# Altium footprint library Texas_Instruments.PcbLib: 55 footprints (part 1 of 4)
Each footprint in its own frame and in the unit in brackets; x right, y up, seen from the top. Pads: shape width x height; smd on the part's side, far side on the other; paste and mask are expansions set on the pad; w line width, h text height; cw(c..) or ccw(c..) is an arc to the next point about the centre after c.
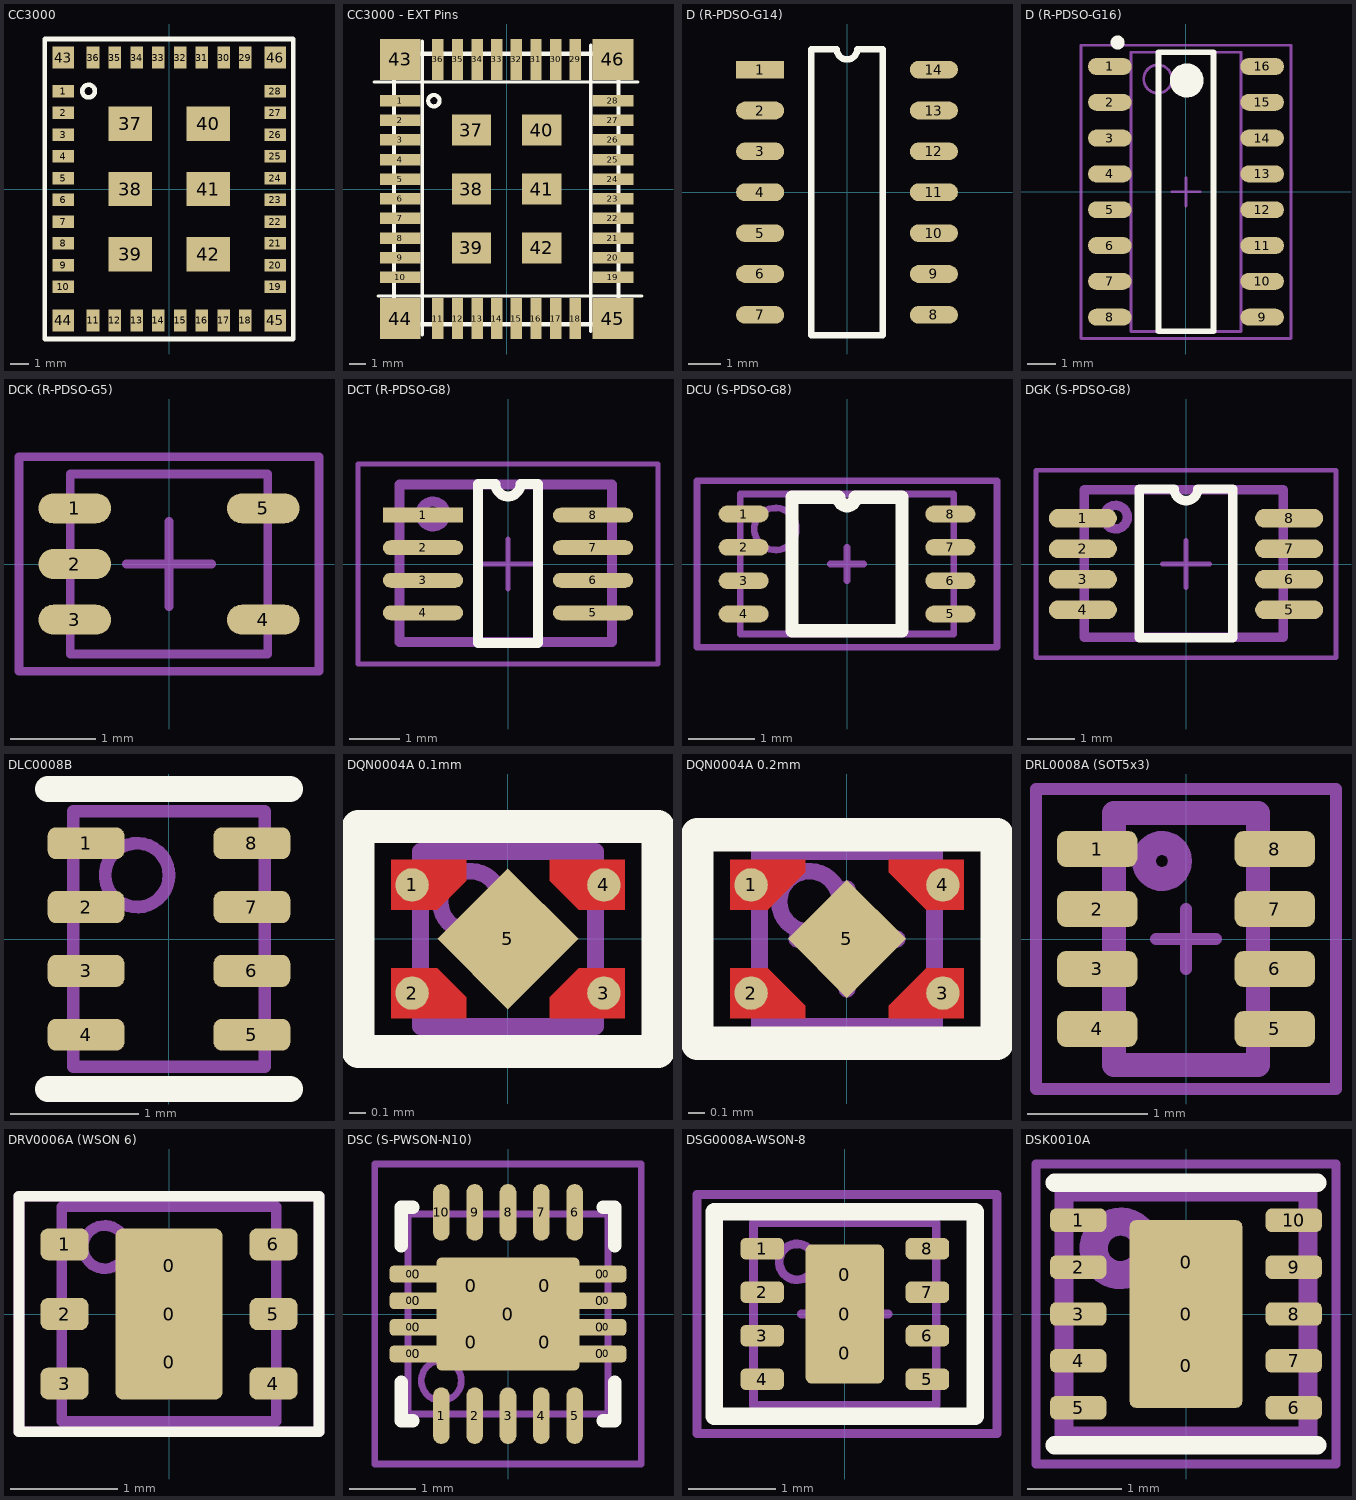
[diagram p0: the footprints below, top view; thin cyan lines are the x and y axes]

## CC3000 [mm] "CC3000"
pads (46):
  rect 1.2x0.7 smd: 1(-5.85,5.4) 2(-5.85,4.2) 3(-5.85,3) 4(-5.85,1.8) 5(-5.85,0.6) 6(-5.85,-0.6) 7(-5.85,-1.8) 8(-5.85,-3) 9(-5.85,-4.2) 10(-5.85,-5.4) 19(5.85,-5.4) 20(5.85,-4.2) 21(5.85,-3) 22(5.85,-1.8) 23(5.85,-0.6) 24(5.85,0.6) 25(5.85,1.8) 26(5.85,3) 27(5.85,4.2) 28(5.85,5.4)
  rect 0.7x1.2 smd: 11(-4.2,-7.25) 12(-3,-7.25) 13(-1.8,-7.25) 14(-0.6,-7.25) 15(0.6,-7.25) 16(1.8,-7.25) 17(3,-7.25) 18(4.2,-7.25) 29(4.2,7.25) 30(3,7.25) 31(1.8,7.25) 32(0.6,7.25) 33(-0.6,7.25) 34(-1.8,7.25) 35(-3,7.25) 36(-4.2,7.25)
  rect 2.4x1.9 smd: 37(-2.15,3.6) 38(-2.15,0) 39(-2.15,-3.6) 40(2.15,3.6) 41(2.15,0) 42(2.15,-3.6)
  rect 1.2x1.2 smd: 43(-5.85,7.25) 44(-5.85,-7.25) 45(5.85,-7.25) 46(5.85,7.25)
Top Overlay:
  circle w0.254: c-4.448,5.4 r0.348
  lines w0.254: -6.875,-8.275 6.85,-8.275 6.85,8.275 -6.875,8.275 -6.875,-8.275
3D body: height 2, standoff -0.1, extent -6.75,-8.15 6.75,8.15

## CC3000 - EXT Pins [mm] "CC3000 - EXT Pins"
pads (46):
  rect 2.5x0.7 smd: 1(-6.5,5.4) 2(-6.5,4.2) 3(-6.5,3) 4(-6.5,1.8) 5(-6.5,0.6) 6(-6.5,-0.6) 7(-6.5,-1.8) 8(-6.5,-3) 9(-6.5,-4.2) 10(-6.5,-5.4) 19(6.5,-5.4) 20(6.5,-4.2) 21(6.5,-3) 22(6.5,-1.8) 23(6.5,-0.6) 24(6.5,0.6) 25(6.5,1.8) 26(6.5,3) 27(6.5,4.2) 28(6.5,5.4)
  rect 0.7x2.5 smd: 11(-4.2,-7.925) 12(-3,-7.925) 13(-1.8,-7.925) 14(-0.6,-7.925) 15(0.6,-7.925) 16(1.8,-7.925) 17(3,-7.925) 18(4.2,-7.925) 29(4.2,7.925) 30(3,7.925) 31(1.8,7.925) 32(0.6,7.925) 33(-0.6,7.925) 34(-1.8,7.925) 35(-3,7.925) 36(-4.2,7.925)
  rect 2.4x1.9 smd: 37(-2.15,3.6) 38(-2.15,0) 39(-2.15,-3.6) 40(2.15,3.6) 41(2.15,0) 42(2.15,-3.6)
  rect 2.5x2.5 smd: 43(-6.5,7.925) 44(-6.5,-7.925) 45(6.5,-7.925) 46(6.5,7.925)
Top Overlay:
  circle w0.254: c-4.448,5.4 r0.348
  lines w0.2: -8.1,6.55 8.025,6.55 ; -7.85,-6.55 8.275,-6.55 ; -5.15,-8.925 -5.15,9.05 ; 5.15,-8.7 5.15,8.8
  lines w0.254: -6.875,-8.275 -6.875,8.275 6.85,8.275 6.85,-8.275 -6.875,-8.275
3D body: height 2, standoff -0.1, extent -6.75,-8.15 6.75,8.15

## D (R-PDSO-G14) [mm]
pads (14):
  rect 1.5x0.55 smd: 1(-2.7,3.81)
  oval 1.5x0.55 smd: 2(-2.7,2.54) 3(-2.7,1.27) 4(-2.7,0) 5(-2.7,-1.27) 6(-2.7,-2.54) 7(-2.7,-3.81) 8(2.7,-3.81) 9(2.7,-2.54) 10(2.7,-1.27) 11(2.7,0) 12(2.7,1.27) 13(2.7,2.54) 14(2.7,3.81)
Top Overlay:
  lines w0.2: -1.115,-4.445 -1.115,4.445 -0.318,4.445 ccw(c0,4.445) 0.318,4.445 1.115,4.445 1.115,-4.445 -1.115,-4.445
3D body: height 1.78, standoff 0.01, extent -3.068,-4.35 3.069,4.35

## D (R-PDSO-G16) [mm]
height 1.75
pads (16):
  oval 1.55x0.6 smd: 1(-2.7,4.445) 2(-2.7,3.175) 3(-2.7,1.905) 4(-2.7,0.635) 5(-2.7,-0.635) 6(-2.7,-1.905) 7(-2.7,-3.175) 8(-2.7,-4.445) 9(2.7,-4.445) 10(2.7,-3.175) 11(2.7,-1.905) 12(2.7,-0.635) 13(2.7,0.635) 14(2.7,1.905) 15(2.7,3.175) 16(2.7,4.445)
Top Overlay:
  circle w0.6: c0.025,3.95 r0.3
  circle w0.25: c-2.425,5.295 r0.125
  lines w0.2: -0.975,-4.95 0.975,-4.95 0.975,4.95 -0.975,4.95 -0.975,-4.95
Mechanical 13:
  circle w0.1: c-1,4 r0.5
  lines w0.1: -1.95,-4.95 1.95,-4.95 1.95,4.95 -1.95,4.95 -1.95,-4.95
Mechanical 15:
  lines w0.1: -0.5,0 0.5,0 ; 0,-0.5 0,0.5 ; -3.725,-5.2 3.725,-5.2 3.725,5.2 -3.725,5.2 -3.725,-5.2
3D body: height 1.75, standoff -0.02, extent -3.089,-4.985 3.048,4.985

## DCK (R-PDSO-G5) [mm]
pads (5):
  oval 0.85x0.35 smd: 1(-1.1,0.65) 2(-1.1,0) 3(-1.1,-0.65) 4(1.1,-0.65) 5(1.1,0.65)
Mechanical 13:
  lines w0.1: -1.15,-1.05 -1.15,1.05 1.15,1.05 1.15,-1.05 -1.15,-1.05
Mechanical 15:
  lines w0.1: -0.5,0 0.5,0 ; 0,-0.5 0,0.5 ; -1.75,-1.25 1.75,-1.25 1.75,1.25 -1.75,1.25 -1.75,-1.25
3D body: height 1, standoff 0, extent -1.15,-1.05 1.15,1.05

## DCT (R-PDSO-G8) [mm]
pads (8):
  rect 1.6x0.3 smd: 1(-1.7,0.975)
  oval 1.6x0.3 smd: 2(-1.7,0.325) 3(-1.7,-0.325) 4(-1.7,-0.975) 5(1.7,-0.975) 6(1.7,-0.325) 7(1.7,0.325) 8(1.7,0.975)
Top Overlay:
  lines w0.2: -0.6,-1.575 0.6,-1.575 0.6,1.6 0.25,1.6 cw(c0,1.6) -0.25,1.6 -0.6,1.6 -0.6,-1.575
Mechanical 13:
  circle w0.2: c-1.5,1 r0.25
  lines w0.2: -2.173,-1.562 2.077,-1.562 2.077,1.588 -2.173,1.588 -2.173,-1.562
Mechanical 15:
  lines w0.1: -0.5,0 0.5,0 ; 0,-0.5 0,0.5 ; -3,-2 3,-2 3,2 -3,2 -3,-2
3D body: height 1.25, standoff -0.05, extent -2.173,-1.562 2.077,1.588

## DCU (S-PDSO-G8) [mm] "VSSOP8, 0.5 pitch, 3.1mm distance across"
height 0.9
pads (8):
  oval 0.75x0.25 smd: 1(-1.55,0.75) 2(-1.55,0.25) 3(-1.55,-0.25) 4(-1.55,-0.75) 5(1.55,-0.75) 6(1.55,-0.25) 7(1.55,0.25) 8(1.55,0.75)
Top Overlay:
  lines w0.2: -0.825,-1 0.825,-1 0.825,1 0.125,1 cw(c0,1) -0.125,1 -0.825,1 -0.825,-1
Mechanical 13:
  circle w0.1: c-1.075,0.525 r0.316
  lines w0.1: -1.6,-1.05 -1.6,1.05 1.6,1.05 1.6,-1.05 -1.6,-1.05
Mechanical 15:
  lines w0.1: -0.25,0 0.25,0 ; 0,-0.25 0,0.25 ; -2.25,-1.25 2.25,-1.25 2.25,1.25 -2.25,1.25 -2.25,-1.25
3D body: height 0.9, standoff 0, extent -1.6,-1.05 1.6,1.05

## DGK (S-PDSO-G8) [mm]
height 1.1
pads (8):
  oval 1.45x0.4 smd: 1(-2.2,0.975) 2(-2.2,0.325) 3(-2.2,-0.325) 4(-2.2,-0.975) 5(2.2,-0.975) 6(2.2,-0.325) 7(2.2,0.325) 8(2.2,0.975)
Top Overlay:
  lines w0.2: -1,-1.575 1,-1.575 1,1.6 0.25,1.6 cw(c0,1.6) -0.25,1.6 -1,1.6 -1,-1.575
Mechanical 13:
  circle w0.2: c-1.5,1 r0.25
  lines w0.2: -2.173,-1.562 2.077,-1.562 2.077,1.588 -2.173,1.588 -2.173,-1.562
Mechanical 15:
  lines w0.1: -0.5,0 0.5,0 ; 0,-0.5 0,0.5 ; -3.2,-2 3.2,-2 3.2,2 -3.2,2 -3.2,-2
3D body: height 1.25, standoff -0.05, extent -2.173,-1.562 2.077,1.588

## DLC0008B [mm]
pads (8):
  rrect50% 0.6x0.25 smd: 1(-0.65,0.75) 2(-0.65,0.25) 3(-0.65,-0.25) 4(-0.65,-0.75) 5(0.65,-0.75) 6(0.65,-0.25) 7(0.65,0.25) 8(0.65,0.75)
Top Overlay:
  lines w0.2: -0.95,-1.175 0.95,-1.175 ; -0.95,1.175 0.95,1.175
Mechanical 13:
  circle w0.1: c-0.25,0.5 r0.25
  lines w0.1: -0.75,-1 -0.75,1 0.75,1 0.75,-1 -0.75,-1
3D body: height 1, standoff 0, extent -0.75,-1 0.75,1

## DQN0004A 0.1mm [mm] "DQN0004A (X2SON 4)"
height 0.4
pads (5):
  round 0.2 smd paste-1 mask-1: 1(-0.575,0.325) 2(-0.575,-0.325) 3(0.575,-0.325) 4(0.575,0.325)
  rect 0.6x0.6 smd rot 45 paste-0.075 mask-0.05: 5(0,0)
Top Layer:
  region: -0.25,0.475 -0.7,0.475 -0.7,0.175 -0.425,0.175 -0.25,0.35
  region: -0.25,-0.475 -0.7,-0.475 -0.7,-0.175 -0.425,-0.175 -0.25,-0.35
  region: 0.25,0.475 0.7,0.475 0.7,0.175 0.425,0.175 0.25,0.35
  region: 0.25,-0.475 0.7,-0.475 0.7,-0.175 0.425,-0.175 0.25,-0.35
Top Overlay:
  lines w0.2: -0.9,-0.675 -0.9,0.675 0.9,0.675 0.9,-0.675 -0.9,-0.675
Top Paste:
  region: -0.3,0.425 -0.7,0.425 -0.7,0.225 -0.475,0.225 -0.3,0.4
  region: -0.3,-0.425 -0.7,-0.425 -0.7,-0.225 -0.475,-0.225 -0.3,-0.4
  region: 0.3,0.425 0.7,0.425 0.7,0.225 0.475,0.225 0.3,0.4
  region: 0.3,-0.425 0.7,-0.425 0.7,-0.225 0.475,-0.225 0.3,-0.4
Top Solder:
  region: -0.3,0.425 -0.65,0.425 -0.65,0.225 -0.45,0.225 -0.3,0.375
  region: -0.3,-0.425 -0.65,-0.425 -0.65,-0.225 -0.45,-0.225 -0.3,-0.375
  region: 0.3,0.425 0.65,0.425 0.65,0.225 0.45,0.225 0.3,0.375
  region: 0.3,-0.425 0.65,-0.425 0.65,-0.225 0.45,-0.225 0.3,-0.375
Mechanical 13:
  circle w0.1: c-0.225,0.225 r0.182
  lines w0.1: -0.525,-0.525 -0.525,0.525 0.525,0.525 0.525,-0.525 -0.525,-0.525
Mechanical 15:
  lines w0.1: -0.3,0 0.3,0 ; 0,-0.3 0,0.3 ; -0.9,-0.625 0.875,-0.625 0.875,0.625 -0.9,0.625 -0.9,-0.625
3D body: height 0.4, standoff 0, extent -0.525,-0.525 0.525,0.525

## DQN0004A 0.2mm [mm] "DQN0004A (X2SON 4)"
height 0.4
pads (5):
  round 0.2 smd paste-1 mask-1: 1(-0.575,0.325) 2(-0.575,-0.325) 3(0.575,-0.325) 4(0.575,0.325)
  rect 0.5x0.5 smd rot 45 paste-0.025 mask+0.05: 5(0,0)
Top Layer:
  region: 0.25,-0.475 0.7,-0.475 0.7,-0.175 0.475,-0.175 0.25,-0.4
  region: 0.25,0.475 0.7,0.475 0.7,0.175 0.475,0.175 0.25,0.4
  region: -0.25,-0.475 -0.7,-0.475 -0.7,-0.175 -0.475,-0.175 -0.25,-0.4
  region: -0.25,0.475 -0.7,0.475 -0.7,0.175 -0.475,0.175 -0.25,0.4
Top Overlay:
  lines w0.2: -0.9,-0.625 0.9,-0.625 0.9,0.625 -0.9,0.625 -0.9,-0.625
Top Paste:
  region: 0.3,-0.425 0.7,-0.425 0.7,-0.225 0.475,-0.225 0.3,-0.4
  region: 0.3,0.425 0.7,0.425 0.7,0.225 0.475,0.225 0.3,0.4
  region: -0.3,-0.425 -0.7,-0.425 -0.7,-0.225 -0.475,-0.225 -0.3,-0.4
  region: -0.3,0.425 -0.7,0.425 -0.7,0.225 -0.475,0.225 -0.3,0.4
Top Solder:
  region: 0.3,-0.425 0.65,-0.425 0.65,-0.225 0.45,-0.225 0.3,-0.375
  region: 0.3,0.425 0.65,0.425 0.65,0.225 0.45,0.225 0.3,0.375
  region: -0.3,-0.425 -0.65,-0.425 -0.65,-0.225 -0.45,-0.225 -0.3,-0.375
  region: -0.3,0.425 -0.65,0.425 -0.65,0.225 -0.45,0.225 -0.3,0.375
Mechanical 13:
  circle w0.1: c-0.225,0.225 r0.182
  lines w0.1: -0.525,-0.525 0.525,-0.525 0.525,0.525 -0.525,0.525 -0.525,-0.525
Mechanical 15:
  lines w0.1: -0.3,0 0.3,0 ; 0,-0.3 0,0.3 ; -0.9,-0.625 -0.9,0.6 0.875,0.6 0.875,-0.625 -0.9,-0.625
3D body: height 0.4, standoff 0, extent -0.525,-0.525 0.525,0.525

## DRL0008A (SOT5x3) [mm]
height 0.6
pads (8):
  rrect50% 0.67x0.3 smd: 1(-0.74,0.75) 2(-0.74,0.25) 3(-0.74,-0.25) 4(-0.74,-0.75) 5(0.74,-0.75) 6(0.74,-0.25) 7(0.74,0.25) 8(0.74,0.75)
Mechanical 13:
  circle w0.2: c-0.2,0.65 r0.15
  lines w0.2: -0.6,-1.05 -0.6,1.05 0.6,1.05 0.6,-1.05 -0.6,-1.05
Mechanical 15:
  lines w0.1: -0.25,0 0.25,0 ; 0,-0.25 0,0.25 ; -1.25,-1.25 -1.25,1.25 1.25,1.25 1.25,-1.25 -1.25,-1.25
3D body: height 0.6, standoff 0, extent -0.6,-1.05 0.6,1.05

## DRV0006A (WSON 6) [mm]
height 0.8
pads (9):
  rrect20% 1x0.7 smd: 0(0,-0.45) 0(0,0.45)
  rrect15% 1x1.6 smd paste-20: 0(0,0)
  rrect50% 0.45x0.3 smd: 1(-0.975,0.65) 2(-0.975,0) 3(-0.975,-0.65) 4(0.975,-0.65) 5(0.975,0) 6(0.975,0.65)
Top Overlay:
  lines w0.1: -1.4,-1.1 -1.4,1.1 1.4,1.1 1.4,-1.1 -1.4,-1.1
Mechanical 13:
  circle w0.1: c-0.6,0.625 r0.202
  lines w0.1: -1,-1 1,-1 1,1 -1,1 -1,-1
Mechanical 15:
  lines w0.1: -0.3,0 0.3,0 ; 0,-0.3 0,0.3 ; -1.4,-1.1 -1.4,1.1 1.4,1.1 1.4,-1.1 -1.4,-1.1
3D body: height 0.8, standoff 0, extent -1,-1 1,1

## DSC (S-PWSON-N10) [mm] "WSON (10)"
height 0.7
pads (31):
  rrect50% 0.6x0.2 smd: 0(-1.475,-0.2) 0(-1.475,0.2) 0(-1.475,-0.6) 0(-1.475,0.6) 0(1.475,-0.6) 0(1.475,0.6) 0(1.475,-0.2) 0(1.475,0.2)
  rrect50% 0.8x0.25 smd paste-1: 0(-1.375,-0.2) 0(-1.375,0.2) 0(-1.375,-0.6) 0(-1.375,0.6) 0(1.375,-0.6) 0(1.375,0.6) 0(1.375,-0.2) 0(1.375,0.2)
  rrect20% 0.9x0.65 smd: 0(-0.55,-0.425) 0(-0.55,0.425) 0(0.55,-0.425) 0(0.55,0.425)
  rrect10% 2.15x1.7 smd paste-3: 0(0,0)
  oval 0.25x0.85 smd: 1(-1,-1.525) 2(-0.5,-1.525) 3(0,-1.525) 4(0.5,-1.525) 5(1,-1.525) 6(1,1.525) 7(0.5,1.525) 8(0,1.525) 9(-0.5,1.525) 10(-1,1.525)
Top Overlay:
  lines w0.2: -1.6,-1.025 -1.6,-1.6 -1.425,-1.6 ; -1.6,1.025 -1.6,1.6 -1.425,1.6 ; 1.425,-1.6 1.6,-1.6 1.6,-1.025 ; 1.425,1.6 1.6,1.6 1.6,1.025
Mechanical 13:
  circle w0.1: c-1,-1 r0.3
  lines w0.1: -1.5,-1.5 1.5,-1.5 1.5,1.5 -1.5,1.5 -1.5,-1.5
Mechanical 15:
  lines w0.1: -0.25,0 0.25,0 ; 0,-0.25 0,0.25 ; -2,-2.25 -2,2.25 2,2.25 2,-2.25 -2,-2.25
3D body: height 0.7, standoff 0, extent -1.5,-1.5 1.5,1.5

## DSG0008A-WSON-8 [mm]
height 0.8
pads (11):
  rrect20% 0.9x0.7 smd: 0(0,-0.45) 0(0,0.45)
  rrect20% 0.9x1.6 smd paste-2: 0(0,0)
  rrect50% 0.5x0.25 smd: 1(-0.95,0.75) 2(-0.95,0.25) 3(-0.95,-0.25) 4(-0.95,-0.75) 5(0.95,-0.75) 6(0.95,-0.25) 7(0.95,0.25) 8(0.95,0.75)
Top Overlay:
  lines w0.2: -1.5,-1.175 -1.5,1.175 1.5,1.175 1.5,-1.175 -1.5,-1.175
Mechanical 13:
  circle w0.1: c-0.55,0.6 r0.206
  lines w0.1: -1.05,-1.05 -1.05,1.05 1.05,1.05 1.05,-1.05 -1.05,-1.05
Mechanical 15:
  lines w0.1: -0.5,0 0.5,0 ; 0,-0.5 0,0.5 ; -1.7,-1.375 -1.7,1.375 1.75,1.375 1.75,-1.375 -1.7,-1.375
3D body: height 0.8, standoff 0, extent -1.05,-1.05 1.05,1.05

## DSK0010A [mm] "WSON - 0.8 mm max height, 10 pins, 0.25mm pitch"
height 0.8
pads (13):
  rrect20% 1.2x0.9 smd: 0(0,-0.55) 0(0,0.55)
  rrect10% 1.2x2 smd paste-2: 0(0,0)
  rrect50% 0.6x0.25 smd: 1(-1.15,1) 2(-1.15,0.5) 3(-1.15,0) 4(-1.15,-0.5) 5(-1.15,-1) 6(1.15,-1) 7(1.15,-0.5) 8(1.15,0) 9(1.15,0.5) 10(1.15,1)
Top Overlay:
  lines w0.2: -1.4,-1.4 1.4,-1.4 ; -1.4,1.4 1.4,1.4
Mechanical 13:
  circle w0.3: c-0.7,0.7 r0.285
  lines w0.2: -1.3,-1.3 1.3,-1.3 1.3,1.3 -1.3,1.3 -1.3,-1.3
Mechanical 15:
  lines w0.1: -0.25,0 0.25,0 ; 0,-0.25 0,0.25 ; -1.6,-1.6 -1.6,1.6 1.6,1.6 1.6,-1.6 -1.6,-1.6
3D body: height 0.8, standoff 0, extent -1.3,-1.3 1.3,1.3